# Altium schematic symbol library C.Schlib: 1 symbol
Pins are listed as number, name and electrical type; pins without a type are passive.

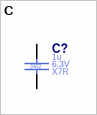
[diagram p0: symbol C]

## C
designator C?ase/Package: 0402  Voltage Rating (DC): 6.3V  Dielectric: X7R  Capacitance: 1u  (hidden comment: C)
Capacitor; Value: 1u
simulation model C_Capacitor_Default (Model Description)
pins: 1, 2
2 alternate drawings of the same symbol